# EAGLE library part 1X14 (library pimoroni-connectors)
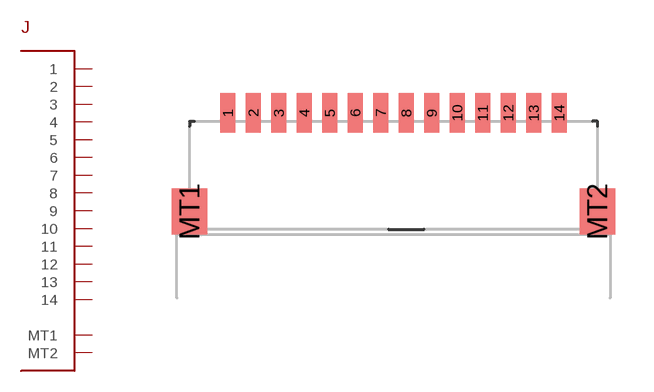
[diagram p22: symbol with the pads of JST_SH_1.0MM_14P; footprint JST_SH_1.0MM_14P]

Designator prefix J

## 1X14SH  [JST_SH_1.0MM_14P]
1  1
2  2
3  3
4  4
5  5
6  6
7  7
8  8
9  9
10  10
11  11
12  12
13  13
14  14
MT1  MT1
MT2  MT2

## Footprint JST_SH_1.0MM_14P (pad centres in mm)
smd 0.6 x 1.55: 1 -6.5,4.775; 2 -5.5,4.775; 3 -4.5,4.775; 4 -3.5,4.775; 5 -2.5,4.775; 6 -1.5,4.775; 7 -0.5,4.775; 8 0.5,4.775; 9 1.5,4.775; 10 2.5,4.775; 11 3.5,4.775; 12 4.5,4.775; 13 5.5,4.775; 14 6.5,4.775
smd 1.4 x 1.8: MT1 -8,0.9; MT2 8,0.9